# Altium schematic symbol library SW-12WAY.Schlib: 1 symbol
Pins are listed as number, name and electrical type; pins without a type are passive.

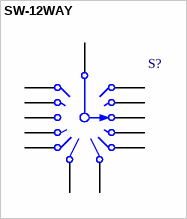
[diagram p0: symbol SW-12WAY]

## SW-12WAY
designator S?
12 Way Switch
pins: 1, 2, 3, 5, 6, 7, 8, 9, 10, 11, 12, 13, 14